# Altium integrated library FUSE.IntLib: 1 symbol
Pins are listed as number, name and electrical type; pins without a type are passive.

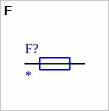
[diagram p0: symbol F]

## F
designator F?
Fuse; ID: *; PRICE: *; BUY_LINK: *; PDF: *
footprint F1812
pins: 1, 2